# EAGLE library part AD3301 (library analog_extras)
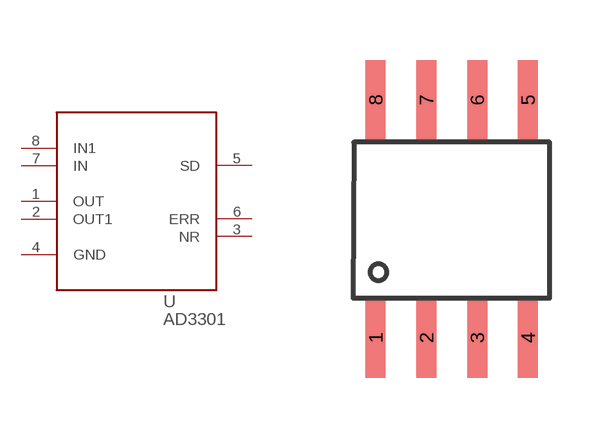
[diagram p4: symbol with the pads of SO-8; footprint SO-8]

Designator prefix -

## AD3301  [SO-8]
1  OUT  pwr
2  OUT1  pwr
3  NR  nc
4  GND  pwr
5  SD
6  ERR  nc
7  IN  pwr
8  IN1  pwr

## Footprint SO-8 (pad centres in mm)
smd 0.5 x 2: 1 -1.24,-2.34; 2 0.03,-2.34; 3 1.3,-2.34; 4 2.57,-2.34; 5 2.57,3.61; 6 1.3,3.61; 7 0.03,3.61; 8 -1.24,3.61